# EAGLE library part MA10-1 (library all-connectors)
PIN HEADER
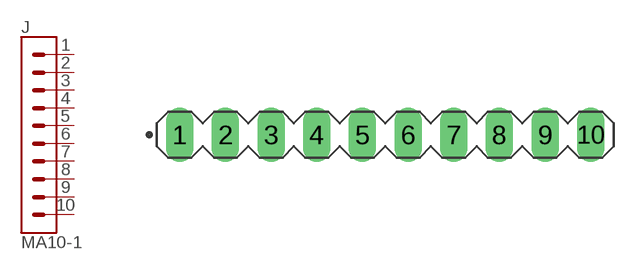
[diagram p26: symbol with the pads of MA10-1_TH_2.54MM; footprint MA10-1_TH_2.54MM]

Designator prefix J

## MA10-1_TH_2.54MM  [MA10-1_TH_2.54MM]
1  1  pas
2  2  pas
3  3  pas
4  4  pas
5  5  pas
6  6  pas
7  7  pas
8  8  pas
9  9  pas
10  10  pas

## Footprint MA10-1_TH_2.54MM (pad centres in mm)
PIN HEADER
drill 1.016 long: 1 -11.43,0; 2 -8.89,0; 3 -6.35,0; 4 -3.81,0; 5 -1.27,0; 6 1.27,0; 7 3.81,0; 8 6.35,0; 9 8.89,0; 10 11.43,0